# Altium integrated library TI Logic Buffer Line Driver.IntLib: 1037 symbols (part 22 of 25)
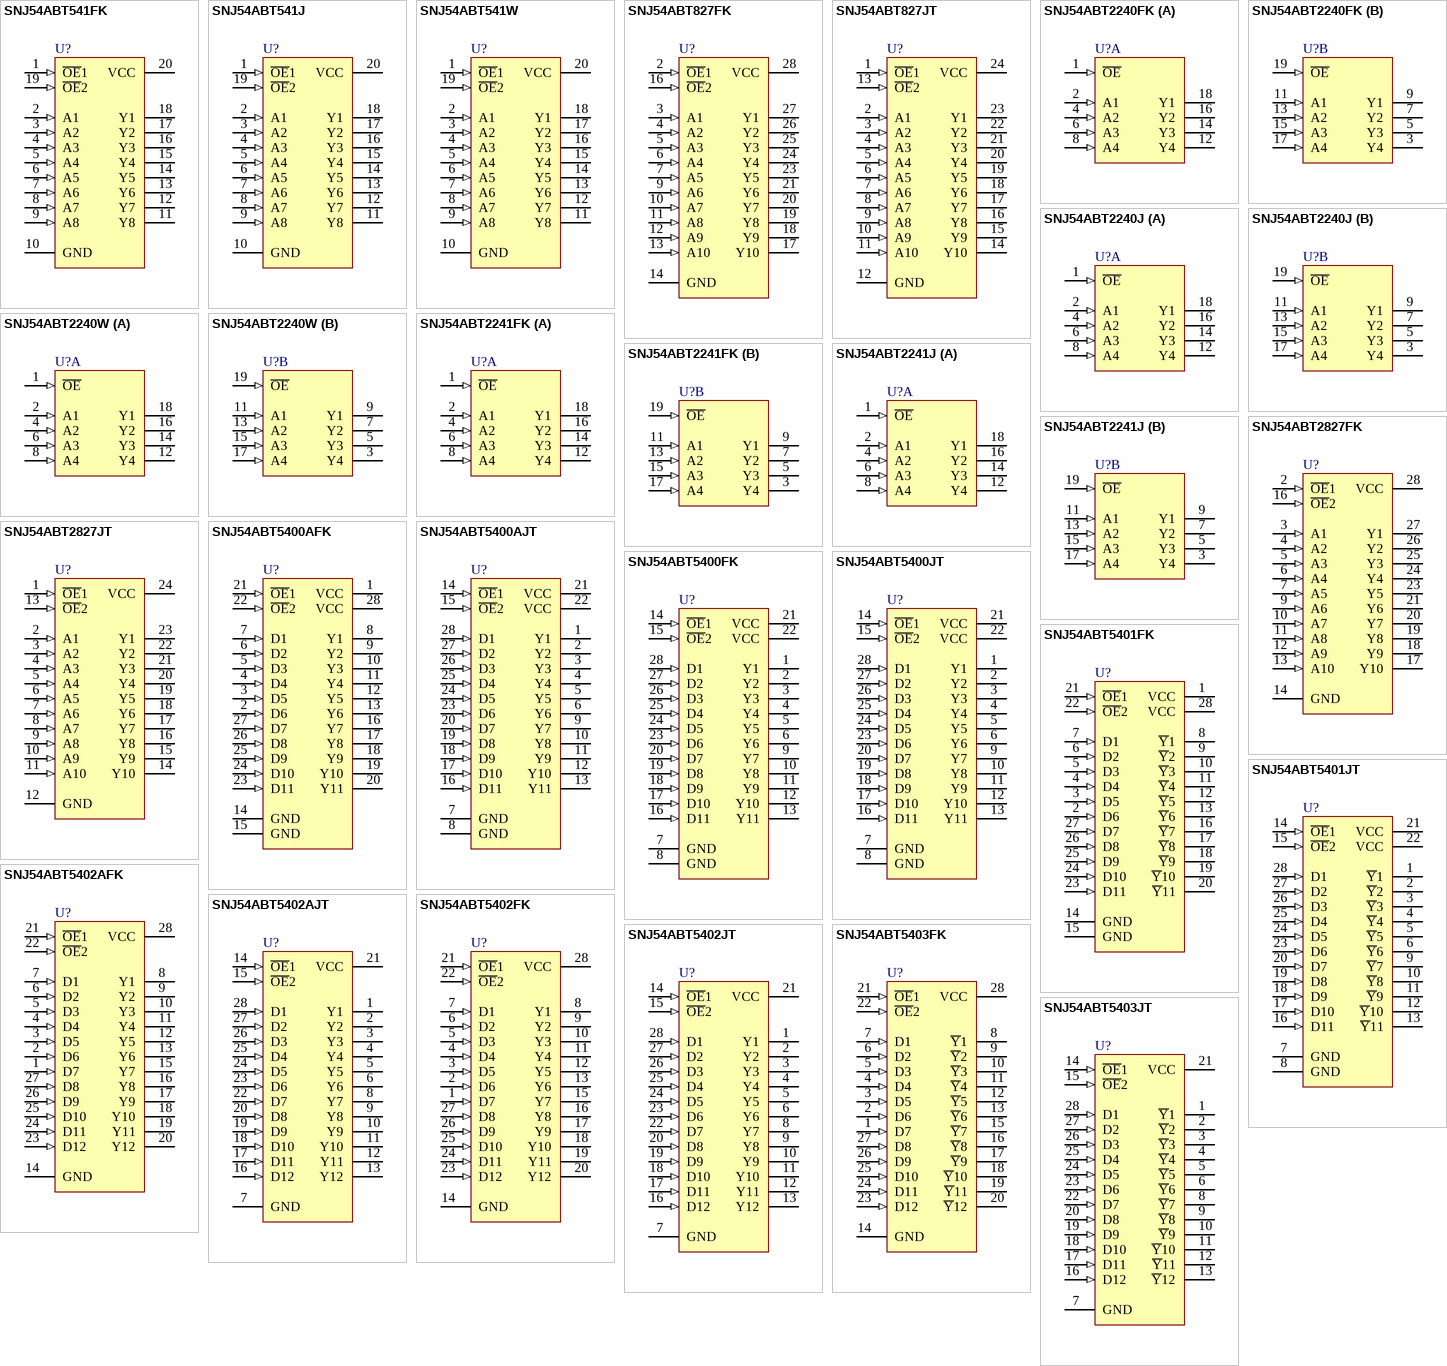
[diagram p66: symbols SNJ54ABT541FK to SNJ54ABT5403JT]

## SNJ54ABT541J
designator U?
Octal Buffer/Driver with 3-State Outputs; Published: 8-Jun-2000; LatestRevisionDate: 06-Jun-2005; LatestRevisionNote: Stylized 3D Model Added.; DatasheetVersion: Oct-1998; PackageVersion: Jun-1999; PackageReference: J020; Publisher: Altium Limited; PackageDescription: DIP; 20 Leads; Row Spacing 7.62 mm; Pitch 2.54 mm; ComponentLink1Description: Manufacturer Link; ComponentLink1URL: http://www.ti.com/; ComponentLink2Description: Datasheet; ComponentLink2URL: http://www-s.ti.com/sc/ds/sn74abt541b.pdf
footprint J020 (DIP; 20 Leads; Row Spacing 7.62 mm; Pitch 2.54 mm)
3D model J020 (DIP; 20 Leads; Row Spacing 7.62 mm; Pitch 2.54 mm)
signal-integrity model SNJ54ABT541J
pins: 1 ~{OE}1 (in), 2 A1 (in), 3 A2 (in), 4 A3 (in), 5 A4 (in), 6 A5 (in), 7 A6 (in), 8 A7 (in), 9 A8 (in), 10 GND (power), 11 Y8 (hiz), 12 Y7 (hiz), 13 Y6 (hiz), 14 Y5 (hiz), 15 Y4 (hiz), 16 Y3 (hiz), 17 Y2 (hiz), 18 Y1 (hiz), 19 ~{OE}2 (in), 20 VCC (power)

## SNJ54ABT541W
designator U?
Octal Buffer/Driver with 3-State Outputs; Published: 8-Jun-2000; LatestRevisionDate: 06-Jun-2005; LatestRevisionNote: Stylized 3D Model Added.; DatasheetVersion: Oct-1998; PackageVersion: Jan-1995; PackageReference: W020; Publisher: Altium Limited; PackageDescription: DFP; 20 Leads; Body 13.7 x 7.6 mm (LxW max); Pitch 1.27 mm; ComponentLink1Description: Manufacturer Link; ComponentLink1URL: http://www.ti.com/; ComponentLink2Description: Datasheet; ComponentLink2URL: http://www-s.ti.com/sc/ds/sn74abt541b.pdf
footprint W020 (DFP; 20 Leads; Body 13.7 x 7.6 mm (LxW max); Pitch 1.27 mm)
3D model W020 (DFP; 20 Leads; Body 13.7 x 7.6 mm (LxW max); Pitch 1.27 mm)
signal-integrity model SNJ54ABT541W
pins: 1 ~{OE}1 (in), 2 A1 (in), 3 A2 (in), 4 A3 (in), 5 A4 (in), 6 A5 (in), 7 A6 (in), 8 A7 (in), 9 A8 (in), 10 GND (power), 11 Y8 (hiz), 12 Y7 (hiz), 13 Y6 (hiz), 14 Y5 (hiz), 15 Y4 (hiz), 16 Y3 (hiz), 17 Y2 (hiz), 18 Y1 (hiz), 19 ~{OE}2 (in), 20 VCC (power)

## SNJ54ABT827FK
designator U?
10-Bit Buffer/Driver with 3-State Outputs; Note: Pins No 1,8,15 and 22 are not connected; Published: 8-Jun-2000; LatestRevisionDate: 17-Jul-2002; LatestRevisionNote: Re-released for DXP Platform.; DatasheetVersion: May-1997; PackageVersion: 1998; PackageReference: FK028; Publisher: Altium Limited; PackageDescription: Leadless Chip Carrier; 28 Terminals; Body 11.4 x 11.4 mm; ComponentLink1Description: Manufacturer Link; ComponentLink1URL: http://www.ti.com/; ComponentLink2Description: Datasheet; ComponentLink2URL: http://www-s.ti.com/sc/ds/sn74abt827.pdf
footprint FK028 (Leadless Chip Carrier; 28 Terminals; Body 11.4 x 11.4 mm)
signal-integrity model SNJ54ABT827FK
pins: 2 ~{OE}1 (in), 3 A1 (in), 4 A2 (in), 5 A3 (in), 6 A4 (in), 7 A5 (in), 9 A6 (in), 10 A7 (in), 11 A8 (in), 12 A9 (in), 13 A10 (in), 14 GND (power), 16 ~{OE}2 (in), 17 Y10 (hiz), 18 Y9 (hiz), 19 Y8 (hiz), 20 Y7 (hiz), 21 Y6 (hiz), 23 Y5 (hiz), 24 Y4 (hiz), 25 Y3 (hiz), 26 Y2 (hiz), 27 Y1 (hiz), 28 VCC (power)

## SNJ54ABT827JT
designator U?
10-Bit Buffer/Driver with 3-State Outputs; Published: 8-Jun-2000; LatestRevisionDate: 06-Jun-2005; LatestRevisionNote: Stylized 3D Model Added.; DatasheetVersion: May-1997; PackageVersion: Jan-1997; PackageReference: JT024; Publisher: Altium Limited; PackageDescription: DIP; 24 Leads; Row Spacing 7.62 mm; Pitch 2.54 mm; Code_JEDEC: MS-001-AF; ComponentLink1Description: Manufacturer Link; ComponentLink1URL: http://www.ti.com/; ComponentLink2Description: Datasheet; ComponentLink2URL: http://www-s.ti.com/sc/ds/sn74abt827.pdf
footprint JT024 (DIP; 24 Leads; Row Spacing 7.62 mm; Pitch 2.54 mm)
3D model JT024 (DIP; 24 Leads; Row Spacing 7.62 mm; Pitch 2.54 mm)
signal-integrity model SNJ54ABT827JT
pins: 1 ~{OE}1 (in), 2 A1 (in), 3 A2 (in), 4 A3 (in), 5 A4 (in), 6 A5 (in), 7 A6 (in), 8 A7 (in), 9 A8 (in), 10 A9 (in), 11 A10 (in), 12 GND (power), 13 ~{OE}2 (in), 14 Y10 (hiz), 15 Y9 (hiz), 16 Y8 (hiz), 17 Y7 (hiz), 18 Y6 (hiz), 19 Y5 (hiz), 20 Y4 (hiz), 21 Y3 (hiz), 22 Y2 (hiz), 23 Y1 (hiz), 24 VCC (power)

## SNJ54ABT2240FK
designator U?
Octal Buffer and Line/MOS Driver with 3-State Outputs; Published: 8-Jun-2000; LatestRevisionDate: 17-Jul-2002; LatestRevisionNote: Re-released for DXP Platform.; DatasheetVersion: May-1997; PackageVersion: 1998; PackageReference: FK020; Publisher: Altium Limited; PackageDescription: Leadless Chip Carrier; 20 Terminals; Body 8.9 x 8.9 mm; ComponentLink1Description: Manufacturer Link; ComponentLink1URL: http://www.ti.com/
footprint FK020 (Leadless Chip Carrier; 20 Terminals; Body 8.9 x 8.9 mm)
signal-integrity model SNJ54ABT2240FK
pins on every part: 10 GND (power) hidden to GND, 20 VCC (power) hidden to VCC
part A pins: 1 ~{OE} (in), 2 A1 (in), 4 A2 (in), 6 A3 (in), 8 A4 (in), 12 Y4 (hiz), 14 Y3 (hiz), 16 Y2 (hiz), 18 Y1 (hiz)
part B pins: 3 Y4 (hiz), 5 Y3 (hiz), 7 Y2 (hiz), 9 Y1 (hiz), 11 A1 (in), 13 A2 (in), 15 A3 (in), 17 A4 (in), 19 ~{OE} (in)

## SNJ54ABT2240J
designator U?
Octal Buffer and Line/MOS Driver with 3-State Outputs; Published: 8-Jun-2000; LatestRevisionDate: 06-Jun-2005; LatestRevisionNote: Stylized 3D Model Added.; DatasheetVersion: May-1997; PackageVersion: Jun-1999; PackageReference: J020C; Publisher: Altium Limited; PackageDescription: DIP; 20 Leads; Row Spacing 7.62 mm; Pitch 2.54 mm; ComponentLink1Description: Manufacturer Link; ComponentLink1URL: http://www.ti.com/
footprint J020C (DIP; 20 Leads; Row Spacing 7.62 mm; Pitch 2.54 mm)
3D model J020 (DIP; 20 Leads; Row Spacing 7.62 mm; Pitch 2.54 mm)
signal-integrity model SNJ54ABT2240J
pins on every part: 10 GND (power) hidden to GND, 20 VCC (power) hidden to VCC
part A pins: 1 ~{OE} (in), 2 A1 (in), 4 A2 (in), 6 A3 (in), 8 A4 (in), 12 Y4 (hiz), 14 Y3 (hiz), 16 Y2 (hiz), 18 Y1 (hiz)
part B pins: 3 Y4 (hiz), 5 Y3 (hiz), 7 Y2 (hiz), 9 Y1 (hiz), 11 A1 (in), 13 A2 (in), 15 A3 (in), 17 A4 (in), 19 ~{OE} (in)

## SNJ54ABT2240W
designator U?
Octal Buffer and Line/MOS Driver with 3-State Outputs; Published: 8-Jun-2000; LatestRevisionDate: 06-Jun-2005; LatestRevisionNote: Stylized 3D Model Added.; DatasheetVersion: May-1997; PackageVersion: Jan-1995; PackageReference: W020; Publisher: Altium Limited; PackageDescription: DFP; 20 Leads; Body 13.7 x 7.6 mm (LxW max); Pitch 1.27 mm; ComponentLink1Description: Manufacturer Link; ComponentLink1URL: http://www.ti.com/
footprint W020 (DFP; 20 Leads; Body 13.7 x 7.6 mm (LxW max); Pitch 1.27 mm)
3D model W020 (DFP; 20 Leads; Body 13.7 x 7.6 mm (LxW max); Pitch 1.27 mm)
signal-integrity model SNJ54ABT2240W
pins on every part: 10 GND (power) hidden to GND, 20 VCC (power) hidden to VCC
part A pins: 1 ~{OE} (in), 2 A1 (in), 4 A2 (in), 6 A3 (in), 8 A4 (in), 12 Y4 (hiz), 14 Y3 (hiz), 16 Y2 (hiz), 18 Y1 (hiz)
part B pins: 3 Y4 (hiz), 5 Y3 (hiz), 7 Y2 (hiz), 9 Y1 (hiz), 11 A1 (in), 13 A2 (in), 15 A3 (in), 17 A4 (in), 19 ~{OE} (in)

## SNJ54ABT2241FK
designator U?
Octal Buffer and Line/MOS Driver with 3-State Outputs; Published: 8-Jun-2000; LatestRevisionDate: 17-Jul-2002; LatestRevisionNote: Re-released for DXP Platform.; DatasheetVersion: Jan-1997; PackageVersion: 1998; PackageReference: FK020; Publisher: Altium Limited; PackageDescription: Leadless Chip Carrier; 20 Terminals; Body 8.9 x 8.9 mm; ComponentLink1Description: Manufacturer Link; ComponentLink1URL: http://www.ti.com/
footprint FK020 (Leadless Chip Carrier; 20 Terminals; Body 8.9 x 8.9 mm)
signal-integrity model SNJ54ABT2241FK
pins on every part: 10 GND (power) hidden to GND, 20 VCC (power) hidden to VCC
part A pins: 1 ~{OE} (in), 2 A1 (in), 4 A2 (in), 6 A3 (in), 8 A4 (in), 12 Y4 (hiz), 14 Y3 (hiz), 16 Y2 (hiz), 18 Y1 (hiz)
part B pins: 3 Y4 (hiz), 5 Y3 (hiz), 7 Y2 (hiz), 9 Y1 (hiz), 11 A1 (in), 13 A2 (in), 15 A3 (in), 17 A4 (in), 19 ~{OE} (in)

## SNJ54ABT2241J
designator U?
Octal Buffer and Line/MOS Driver with 3-State Outputs; Published: 8-Jun-2000; LatestRevisionDate: 06-Jun-2005; LatestRevisionNote: Stylized 3D Model Added.; DatasheetVersion: Jan-1997; PackageVersion: Jun-1999; PackageReference: J020C; Publisher: Altium Limited; PackageDescription: DIP; 20 Leads; Row Spacing 7.62 mm; Pitch 2.54 mm; ComponentLink1Description: Manufacturer Link; ComponentLink1URL: http://www.ti.com/
footprint J020C (DIP; 20 Leads; Row Spacing 7.62 mm; Pitch 2.54 mm)
3D model J020 (DIP; 20 Leads; Row Spacing 7.62 mm; Pitch 2.54 mm)
signal-integrity model SNJ54ABT2241J
pins on every part: 10 GND (power) hidden to GND, 20 VCC (power) hidden to VCC
part A pins: 1 ~{OE} (in), 2 A1 (in), 4 A2 (in), 6 A3 (in), 8 A4 (in), 12 Y4 (hiz), 14 Y3 (hiz), 16 Y2 (hiz), 18 Y1 (hiz)
part B pins: 3 Y4 (hiz), 5 Y3 (hiz), 7 Y2 (hiz), 9 Y1 (hiz), 11 A1 (in), 13 A2 (in), 15 A3 (in), 17 A4 (in), 19 ~{OE} (in)

## SNJ54ABT2827FK
designator U?
10-Bit Buffer/Driver with 3-State Outputs; Note: Pins No 1,8,15 and 22 are not connected; Published: 8-Jun-2000; LatestRevisionDate: 17-Jul-2002; LatestRevisionNote: Re-released for DXP Platform.; DatasheetVersion: Jan-1997; PackageVersion: 1998; PackageReference: FK028; Publisher: Altium Limited; PackageDescription: Leadless Chip Carrier; 28 Terminals; Body 11.4 x 11.4 mm; ComponentLink1Description: Manufacturer Link; ComponentLink1URL: http://www.ti.com/; ComponentLink2Description: Datasheet; ComponentLink2URL: http://www-s.ti.com/sc/ds/sn74abt2827.pdf
footprint FK028 (Leadless Chip Carrier; 28 Terminals; Body 11.4 x 11.4 mm)
signal-integrity model SNJ54ABT2827FK
pins: 2 ~{OE}1 (in), 3 A1 (in), 4 A2 (in), 5 A3 (in), 6 A4 (in), 7 A5 (in), 9 A6 (in), 10 A7 (in), 11 A8 (in), 12 A9 (in), 13 A10 (in), 14 GND (power), 16 ~{OE}2 (in), 17 Y10 (hiz), 18 Y9 (hiz), 19 Y8 (hiz), 20 Y7 (hiz), 21 Y6 (hiz), 23 Y5 (hiz), 24 Y4 (hiz), 25 Y3 (hiz), 26 Y2 (hiz), 27 Y1 (hiz), 28 VCC (power)

## SNJ54ABT2827JT
designator U?
10-Bit Buffer/Driver with 3-State Outputs; Published: 8-Jun-2000; LatestRevisionDate: 06-Jun-2005; LatestRevisionNote: Stylized 3D Model Added.; DatasheetVersion: Jan-1997; PackageVersion: Jan-1997; PackageReference: JT024; Publisher: Altium Limited; PackageDescription: DIP; 24 Leads; Row Spacing 7.62 mm; Pitch 2.54 mm; Code_JEDEC: MS-001-AF; ComponentLink1Description: Manufacturer Link; ComponentLink1URL: http://www.ti.com/; ComponentLink2Description: Datasheet; ComponentLink2URL: http://www-s.ti.com/sc/ds/sn74abt2827.pdf
footprint JT024 (DIP; 24 Leads; Row Spacing 7.62 mm; Pitch 2.54 mm)
3D model JT024 (DIP; 24 Leads; Row Spacing 7.62 mm; Pitch 2.54 mm)
signal-integrity model SNJ54ABT2827JT
pins: 1 ~{OE}1 (in), 2 A1 (in), 3 A2 (in), 4 A3 (in), 5 A4 (in), 6 A5 (in), 7 A6 (in), 8 A7 (in), 9 A8 (in), 10 A9 (in), 11 A10 (in), 12 GND (power), 13 ~{OE}2 (in), 14 Y10 (hiz), 15 Y9 (hiz), 16 Y8 (hiz), 17 Y7 (hiz), 18 Y6 (hiz), 19 Y5 (hiz), 20 Y4 (hiz), 21 Y3 (hiz), 22 Y2 (hiz), 23 Y1 (hiz), 24 VCC (power)

## SNJ54ABT5400AFK
designator U?
11-Bit Line/Memory Driver with 3-State Outputs; Published: 8-Jun-2000; LatestRevisionDate: 17-Jul-2002; LatestRevisionNote: Re-released for DXP Platform.; DatasheetVersion: May-1997; PackageVersion: 1998; PackageReference: FK028; Publisher: Altium Limited; PackageDescription: Leadless Chip Carrier; 28 Terminals; Body 11.4 x 11.4 mm; ComponentLink1Description: Manufacturer Link; ComponentLink1URL: http://www.ti.com/; ComponentLink2Description: Datasheet; ComponentLink2URL: http://www-s.ti.com/sc/ds/sn74abt5400a.pdf
footprint FK028 (Leadless Chip Carrier; 28 Terminals; Body 11.4 x 11.4 mm)
signal-integrity model SNJ54ABT5400AFK
pins: 1 VCC (power), 2 D6 (in), 3 D5 (in), 4 D4 (in), 5 D3 (in), 6 D2 (in), 7 D1 (in), 8 Y1 (hiz), 9 Y2 (hiz), 10 Y3 (hiz), 11 Y4 (hiz), 12 Y5 (hiz), 13 Y6 (hiz), 14 GND (power), 15 GND (power), 16 Y7 (hiz), 17 Y8 (hiz), 18 Y9 (hiz), 19 Y10 (hiz), 20 Y11 (hiz), 21 ~{OE}1 (in), 22 ~{OE}2 (in), 23 D11 (in), 24 D10 (in), 25 D9 (in), 26 D8 (in), 27 D7 (in), 28 VCC (power)

## SNJ54ABT5400AJT
designator U?
11-Bit Line/Memory Driver with 3-State Outputs; Published: 8-Jun-2000; LatestRevisionDate: 06-Jun-2005; LatestRevisionNote: Stylized 3D Model Added.; DatasheetVersion: May-1997; PackageVersion: Jan-1997; PackageReference: JT028; Publisher: Altium Limited; PackageDescription: DIP; 28 Leads; Row Spacing 7.62 mm; Pitch 2.54 mm; ComponentLink1Description: Manufacturer Link; ComponentLink1URL: http://www.ti.com/; ComponentLink2Description: Datasheet; ComponentLink2URL: http://www-s.ti.com/sc/ds/sn74abt5400a.pdf
footprint JT028 (DIP; 28 Leads; Row Spacing 7.62 mm; Pitch 2.54 mm)
3D model JT028 (DIP; 28 Leads; Row Spacing 7.62 mm; Pitch 2.54 mm)
signal-integrity model SNJ54ABT5400AJT
pins: 1 Y1 (hiz), 2 Y2 (hiz), 3 Y3 (hiz), 4 Y4 (hiz), 5 Y5 (hiz), 6 Y6 (hiz), 7 GND (power), 8 GND (power), 9 Y7 (hiz), 10 Y8 (hiz), 11 Y9 (hiz), 12 Y10 (hiz), 13 Y11 (hiz), 14 ~{OE}1 (in), 15 ~{OE}2 (in), 16 D11 (in), 17 D10 (in), 18 D9 (in), 19 D8 (in), 20 D7 (in), 21 VCC (power), 22 VCC (power), 23 D6 (in), 24 D5 (in), 25 D4 (in), 26 D3 (in), 27 D2 (in), 28 D1 (in)

## SNJ54ABT5400FK
designator U?
11-Bit Line/Memory Driver with 3-State Outputs; Published: 8-Jun-2000; LatestRevisionDate: 17-Jul-2002; LatestRevisionNote: Re-released for DXP Platform.; DatasheetVersion: Jul-1994; PackageVersion: 1998; PackageReference: FK028; Publisher: Altium Limited; PackageDescription: Leadless Chip Carrier; 28 Terminals; Body 11.4 x 11.4 mm; ComponentLink1Description: Manufacturer Link; ComponentLink1URL: http://www.ti.com/; ComponentLink2Description: Datasheet; ComponentLink2URL: http://www-s.ti.com/sc/ds/sn74abt5400.pdf
footprint FK028 (Leadless Chip Carrier; 28 Terminals; Body 11.4 x 11.4 mm)
signal-integrity model SNJ54ABT5400FK
pins: 1 Y1 (hiz), 2 Y2 (hiz), 3 Y3 (hiz), 4 Y4 (hiz), 5 Y5 (hiz), 6 Y6 (hiz), 7 GND (power), 8 GND (power), 9 Y7 (hiz), 10 Y8 (hiz), 11 Y9 (hiz), 12 Y10 (hiz), 13 Y11 (hiz), 14 ~{OE}1 (in), 15 ~{OE}2 (in), 16 D11 (in), 17 D10 (in), 18 D9 (in), 19 D8 (in), 20 D7 (in), 21 VCC (power), 22 VCC (power), 23 D6 (in), 24 D5 (in), 25 D4 (in), 26 D3 (in), 27 D2 (in), 28 D1 (in)

## SNJ54ABT5400JT
designator U?
11-Bit Line/Memory Driver with 3-State Outputs; Published: 8-Jun-2000; LatestRevisionDate: 06-Jun-2005; LatestRevisionNote: Stylized 3D Model Added.; DatasheetVersion: Jul-1994; PackageVersion: Jan-1997; PackageReference: JT028; Publisher: Altium Limited; PackageDescription: DIP; 28 Leads; Row Spacing 7.62 mm; Pitch 2.54 mm; ComponentLink1Description: Manufacturer Link; ComponentLink1URL: http://www.ti.com/; ComponentLink2Description: Datasheet; ComponentLink2URL: http://www-s.ti.com/sc/ds/sn74abt5400.pdf
footprint JT028 (DIP; 28 Leads; Row Spacing 7.62 mm; Pitch 2.54 mm)
3D model JT028 (DIP; 28 Leads; Row Spacing 7.62 mm; Pitch 2.54 mm)
signal-integrity model SNJ54ABT5400JT
pins: 1 Y1 (hiz), 2 Y2 (hiz), 3 Y3 (hiz), 4 Y4 (hiz), 5 Y5 (hiz), 6 Y6 (hiz), 7 GND (power), 8 GND (power), 9 Y7 (hiz), 10 Y8 (hiz), 11 Y9 (hiz), 12 Y10 (hiz), 13 Y11 (hiz), 14 ~{OE}1 (in), 15 ~{OE}2 (in), 16 D11 (in), 17 D10 (in), 18 D9 (in), 19 D8 (in), 20 D7 (in), 21 VCC (power), 22 VCC (power), 23 D6 (in), 24 D5 (in), 25 D4 (in), 26 D3 (in), 27 D2 (in), 28 D1 (in)

## SNJ54ABT5401FK
designator U?
11-Bit Line/Memory Driver with 3-State Output; Published: 8-Jun-2000; LatestRevisionDate: 17-Jul-2002; LatestRevisionNote: Re-released for DXP Platform.; DatasheetVersion: Jan-1997; PackageVersion: 1998; PackageReference: FK028; Publisher: Altium Limited; PackageDescription: Leadless Chip Carrier; 28 Terminals; Body 11.4 x 11.4 mm; ComponentLink1Description: Manufacturer Link; ComponentLink1URL: http://www.ti.com/; ComponentLink2Description: Datasheet; ComponentLink2URL: http://www-s.ti.com/sc/ds/sn74abt5401.pdf
footprint FK028 (Leadless Chip Carrier; 28 Terminals; Body 11.4 x 11.4 mm)
signal-integrity model SNJ54ABT5401FK
pins: 1 VCC (power), 2 D6 (in), 3 D5 (in), 4 D4 (in), 5 D3 (in), 6 D2 (in), 7 D1 (in), 8 ~{Y}1 (hiz), 9 ~{Y}2 (hiz), 10 ~{Y}3 (hiz), 11 ~{Y}4 (hiz), 12 ~{Y}5 (hiz), 13 ~{Y}6 (hiz), 14 GND (power), 15 GND (power), 16 ~{Y}7 (hiz), 17 ~{Y}8 (hiz), 18 ~{Y}9 (hiz), 19 ~{Y}10 (hiz), 20 ~{Y}11 (hiz), 21 ~{OE}1 (in), 22 ~{OE}2 (in), 23 D11 (in), 24 D10 (in), 25 D9 (in), 26 D8 (in), 27 D7 (in), 28 VCC (power)

## SNJ54ABT5401JT
designator U?
11-Bit Line/Memory Driver with 3-State Output; Published: 8-Jun-2000; LatestRevisionDate: 06-Jun-2005; LatestRevisionNote: Stylized 3D Model Added.; DatasheetVersion: Jan-1997; PackageVersion: Jan-1997; PackageReference: JT028; Publisher: Altium Limited; PackageDescription: DIP; 28 Leads; Row Spacing 7.62 mm; Pitch 2.54 mm; ComponentLink1Description: Manufacturer Link; ComponentLink1URL: http://www.ti.com/; ComponentLink2Description: Datasheet; ComponentLink2URL: http://www-s.ti.com/sc/ds/sn74abt5401.pdf
footprint JT028 (DIP; 28 Leads; Row Spacing 7.62 mm; Pitch 2.54 mm)
3D model JT028 (DIP; 28 Leads; Row Spacing 7.62 mm; Pitch 2.54 mm)
signal-integrity model SNJ54ABT5401JT
pins: 1 ~{Y}1 (hiz), 2 ~{Y}2 (hiz), 3 ~{Y}3 (hiz), 4 ~{Y}4 (hiz), 5 ~{Y}5 (hiz), 6 ~{Y}6 (hiz), 7 GND (power), 8 GND (power), 9 ~{Y}7 (hiz), 10 ~{Y}8 (hiz), 11 ~{Y}9 (hiz), 12 ~{Y}10 (hiz), 13 ~{Y}11 (hiz), 14 ~{OE}1 (in), 15 ~{OE}2 (in), 16 D11 (in), 17 D10 (in), 18 D9 (in), 19 D8 (in), 20 D7 (in), 21 VCC (power), 22 VCC (power), 23 D6 (in), 24 D5 (in), 25 D4 (in), 26 D3 (in), 27 D2 (in), 28 D1 (in)

## SNJ54ABT5402AFK
designator U?
12-Bit Line/Memory Driver with 3-State Output; Published: 8-Jun-2000; LatestRevisionDate: 17-Jul-2002; LatestRevisionNote: Re-released for DXP Platform.; DatasheetVersion: May-1997; PackageVersion: 1998; PackageReference: FK028; Publisher: Altium Limited; PackageDescription: Leadless Chip Carrier; 28 Terminals; Body 11.4 x 11.4 mm; ComponentLink1Description: Manufacturer Link; ComponentLink1URL: http://www.ti.com/; ComponentLink2Description: Datasheet; ComponentLink2URL: http://www-s.ti.com/sc/ds/sn74abt5402a.pdf
footprint FK028 (Leadless Chip Carrier; 28 Terminals; Body 11.4 x 11.4 mm)
signal-integrity model SNJ54ABT5402AFK
pins: 1 D7 (in), 2 D6 (in), 3 D5 (in), 4 D4 (in), 5 D3 (in), 6 D2 (in), 7 D1 (in), 8 Y1 (hiz), 9 Y2 (hiz), 10 Y3 (hiz), 11 Y4 (hiz), 12 Y5 (hiz), 13 Y6 (hiz), 14 GND (power), 15 Y7 (hiz), 16 Y8 (hiz), 17 Y9 (hiz), 18 Y10 (hiz), 19 Y11 (hiz), 20 Y12 (hiz), 21 ~{OE}1 (in), 22 ~{OE}2 (in), 23 D12 (in), 24 D11 (in), 25 D10 (in), 26 D9 (in), 27 D8 (in), 28 VCC (power)

## SNJ54ABT5402AJT
designator U?
12-Bit Line/Memory Driver with 3-State Output; Published: 8-Jun-2000; LatestRevisionDate: 06-Jun-2005; LatestRevisionNote: Stylized 3D Model Added.; DatasheetVersion: May-1997; PackageVersion: Jan-1997; PackageReference: JT028; Publisher: Altium Limited; PackageDescription: DIP; 28 Leads; Row Spacing 7.62 mm; Pitch 2.54 mm; ComponentLink1Description: Manufacturer Link; ComponentLink1URL: http://www.ti.com/; ComponentLink2Description: Datasheet; ComponentLink2URL: http://www-s.ti.com/sc/ds/sn74abt5402a.pdf
footprint JT028 (DIP; 28 Leads; Row Spacing 7.62 mm; Pitch 2.54 mm)
3D model JT028 (DIP; 28 Leads; Row Spacing 7.62 mm; Pitch 2.54 mm)
signal-integrity model SNJ54ABT5402AJT
pins: 1 Y1 (hiz), 2 Y2 (hiz), 3 Y3 (hiz), 4 Y4 (hiz), 5 Y5 (hiz), 6 Y6 (hiz), 7 GND (power), 8 Y7 (hiz), 9 Y8 (hiz), 10 Y9 (hiz), 11 Y10 (hiz), 12 Y11 (hiz), 13 Y12 (hiz), 14 ~{OE}1 (in), 15 ~{OE}2 (in), 16 D12 (in), 17 D11 (in), 18 D10 (in), 19 D9 (in), 20 D8 (in), 21 VCC (power), 22 D7 (in), 23 D6 (in), 24 D5 (in), 25 D4 (in), 26 D3 (in), 27 D2 (in), 28 D1 (in)

## SNJ54ABT5402FK
designator U?
12-Bit Line/Memory Driver with 3-State Output; Published: 8-Jun-2000; LatestRevisionDate: 17-Jul-2002; LatestRevisionNote: Re-released for DXP Platform.; DatasheetVersion: Jul-1994; PackageVersion: 1998; PackageReference: FK028; Publisher: Altium Limited; PackageDescription: Leadless Chip Carrier; 28 Terminals; Body 11.4 x 11.4 mm; ComponentLink1Description: Manufacturer Link; ComponentLink1URL: http://www.ti.com/; ComponentLink2Description: Datasheet; ComponentLink2URL: http://www-s.ti.com/sc/ds/sn74abt5402.pdf
footprint FK028 (Leadless Chip Carrier; 28 Terminals; Body 11.4 x 11.4 mm)
signal-integrity model SNJ54ABT5402FK
pins: 1 D7 (in), 2 D6 (in), 3 D5 (in), 4 D4 (in), 5 D3 (in), 6 D2 (in), 7 D1 (in), 8 Y1 (hiz), 9 Y2 (hiz), 10 Y3 (hiz), 11 Y4 (hiz), 12 Y5 (hiz), 13 Y6 (hiz), 14 GND (power), 15 Y7 (hiz), 16 Y8 (hiz), 17 Y9 (hiz), 18 Y10 (hiz), 19 Y11 (hiz), 20 Y12 (hiz), 21 ~{OE}1 (in), 22 ~{OE}2 (in), 23 D12 (in), 24 D11 (in), 25 D10 (in), 26 D9 (in), 27 D8 (in), 28 VCC (power)

## SNJ54ABT5402JT
designator U?
12-Bit Line/Memory Driver with 3-State Output; Published: 8-Jun-2000; LatestRevisionDate: 06-Jun-2005; LatestRevisionNote: Stylized 3D Model Added.; DatasheetVersion: Jul-1994; PackageVersion: Jan-1997; PackageReference: JT028; Publisher: Altium Limited; PackageDescription: DIP; 28 Leads; Row Spacing 7.62 mm; Pitch 2.54 mm; ComponentLink1Description: Manufacturer Link; ComponentLink1URL: http://www.ti.com/; ComponentLink2Description: Datasheet; ComponentLink2URL: http://www-s.ti.com/sc/ds/sn74abt5402.pdf
footprint JT028 (DIP; 28 Leads; Row Spacing 7.62 mm; Pitch 2.54 mm)
3D model JT028 (DIP; 28 Leads; Row Spacing 7.62 mm; Pitch 2.54 mm)
signal-integrity model SNJ54ABT5402JT
pins: 1 Y1 (hiz), 2 Y2 (hiz), 3 Y3 (hiz), 4 Y4 (hiz), 5 Y5 (hiz), 6 Y6 (hiz), 7 GND (power), 8 Y7 (hiz), 9 Y8 (hiz), 10 Y9 (hiz), 11 Y10 (hiz), 12 Y11 (hiz), 13 Y12 (hiz), 14 ~{OE}1 (in), 15 ~{OE}2 (in), 16 D12 (in), 17 D11 (in), 18 D10 (in), 19 D9 (in), 20 D8 (in), 21 VCC (power), 22 D7 (in), 23 D6 (in), 24 D5 (in), 25 D4 (in), 26 D3 (in), 27 D2 (in), 28 D1 (in)

## SNJ54ABT5403FK
designator U?
12-Bit Line/Memory Driver with 3-State Output; Published: 8-Jun-2000; LatestRevisionDate: 17-Jul-2002; LatestRevisionNote: Re-released for DXP Platform.; DatasheetVersion: Jan-1997; PackageVersion: 1998; PackageReference: FK028; Publisher: Altium Limited; PackageDescription: Leadless Chip Carrier; 28 Terminals; Body 11.4 x 11.4 mm; ComponentLink1Description: Manufacturer Link; ComponentLink1URL: http://www.ti.com/; ComponentLink2Description: Datasheet; ComponentLink2URL: http://www-s.ti.com/sc/ds/sn74abt5403.pdf
footprint FK028 (Leadless Chip Carrier; 28 Terminals; Body 11.4 x 11.4 mm)
signal-integrity model SNJ54ABT5403FK
pins: 1 D7 (in), 2 D6 (in), 3 D5 (in), 4 D4 (in), 5 D3 (in), 6 D2 (in), 7 D1 (in), 8 ~{Y}1 (hiz), 9 ~{Y}2 (hiz), 10 ~{Y}3 (hiz), 11 ~{Y}4 (hiz), 12 ~{Y}5 (hiz), 13 ~{Y}6 (hiz), 14 GND (power), 15 ~{Y}7 (hiz), 16 ~{Y}8 (hiz), 17 ~{Y}9 (hiz), 18 ~{Y}10 (hiz), 19 ~{Y}11 (hiz), 20 ~{Y}12 (hiz), 21 ~{OE}1 (in), 22 ~{OE}2 (in), 23 D12 (in), 24 D11 (in), 25 D10 (in), 26 D9 (in), 27 D8 (in), 28 VCC (power)

## SNJ54ABT5403JT
designator U?
12-Bit Line/Memory Driver with 3-State Output; Published: 8-Jun-2000; LatestRevisionDate: 06-Jun-2005; LatestRevisionNote: Stylized 3D Model Added.; DatasheetVersion: Jan-1997; PackageVersion: Jan-1997; PackageReference: JT028; Publisher: Altium Limited; PackageDescription: DIP; 28 Leads; Row Spacing 7.62 mm; Pitch 2.54 mm; ComponentLink1Description: Manufacturer Link; ComponentLink1URL: http://www.ti.com/; ComponentLink2Description: Datasheet; ComponentLink2URL: http://www-s.ti.com/sc/ds/sn74abt5403.pdf
footprint JT028 (DIP; 28 Leads; Row Spacing 7.62 mm; Pitch 2.54 mm)
3D model JT028 (DIP; 28 Leads; Row Spacing 7.62 mm; Pitch 2.54 mm)
signal-integrity model SNJ54ABT5403JT
pins: 1 ~{Y}1 (hiz), 2 ~{Y}2 (hiz), 3 ~{Y}3 (hiz), 4 ~{Y}4 (hiz), 5 ~{Y}5 (hiz), 6 ~{Y}6 (hiz), 7 GND (power), 8 ~{Y}7 (hiz), 9 ~{Y}8 (hiz), 10 ~{Y}9 (hiz), 11 ~{Y}10 (hiz), 12 ~{Y}11 (hiz), 13 ~{Y}12 (hiz), 14 ~{OE}1 (in), 15 ~{OE}2 (in), 16 D12 (in), 17 D11 (in), 18 D10 (in), 19 D9 (in), 20 D8 (in), 21 VCC (power), 22 D7 (in), 23 D6 (in), 24 D5 (in), 25 D4 (in), 26 D3 (in), 27 D2 (in), 28 D1 (in)

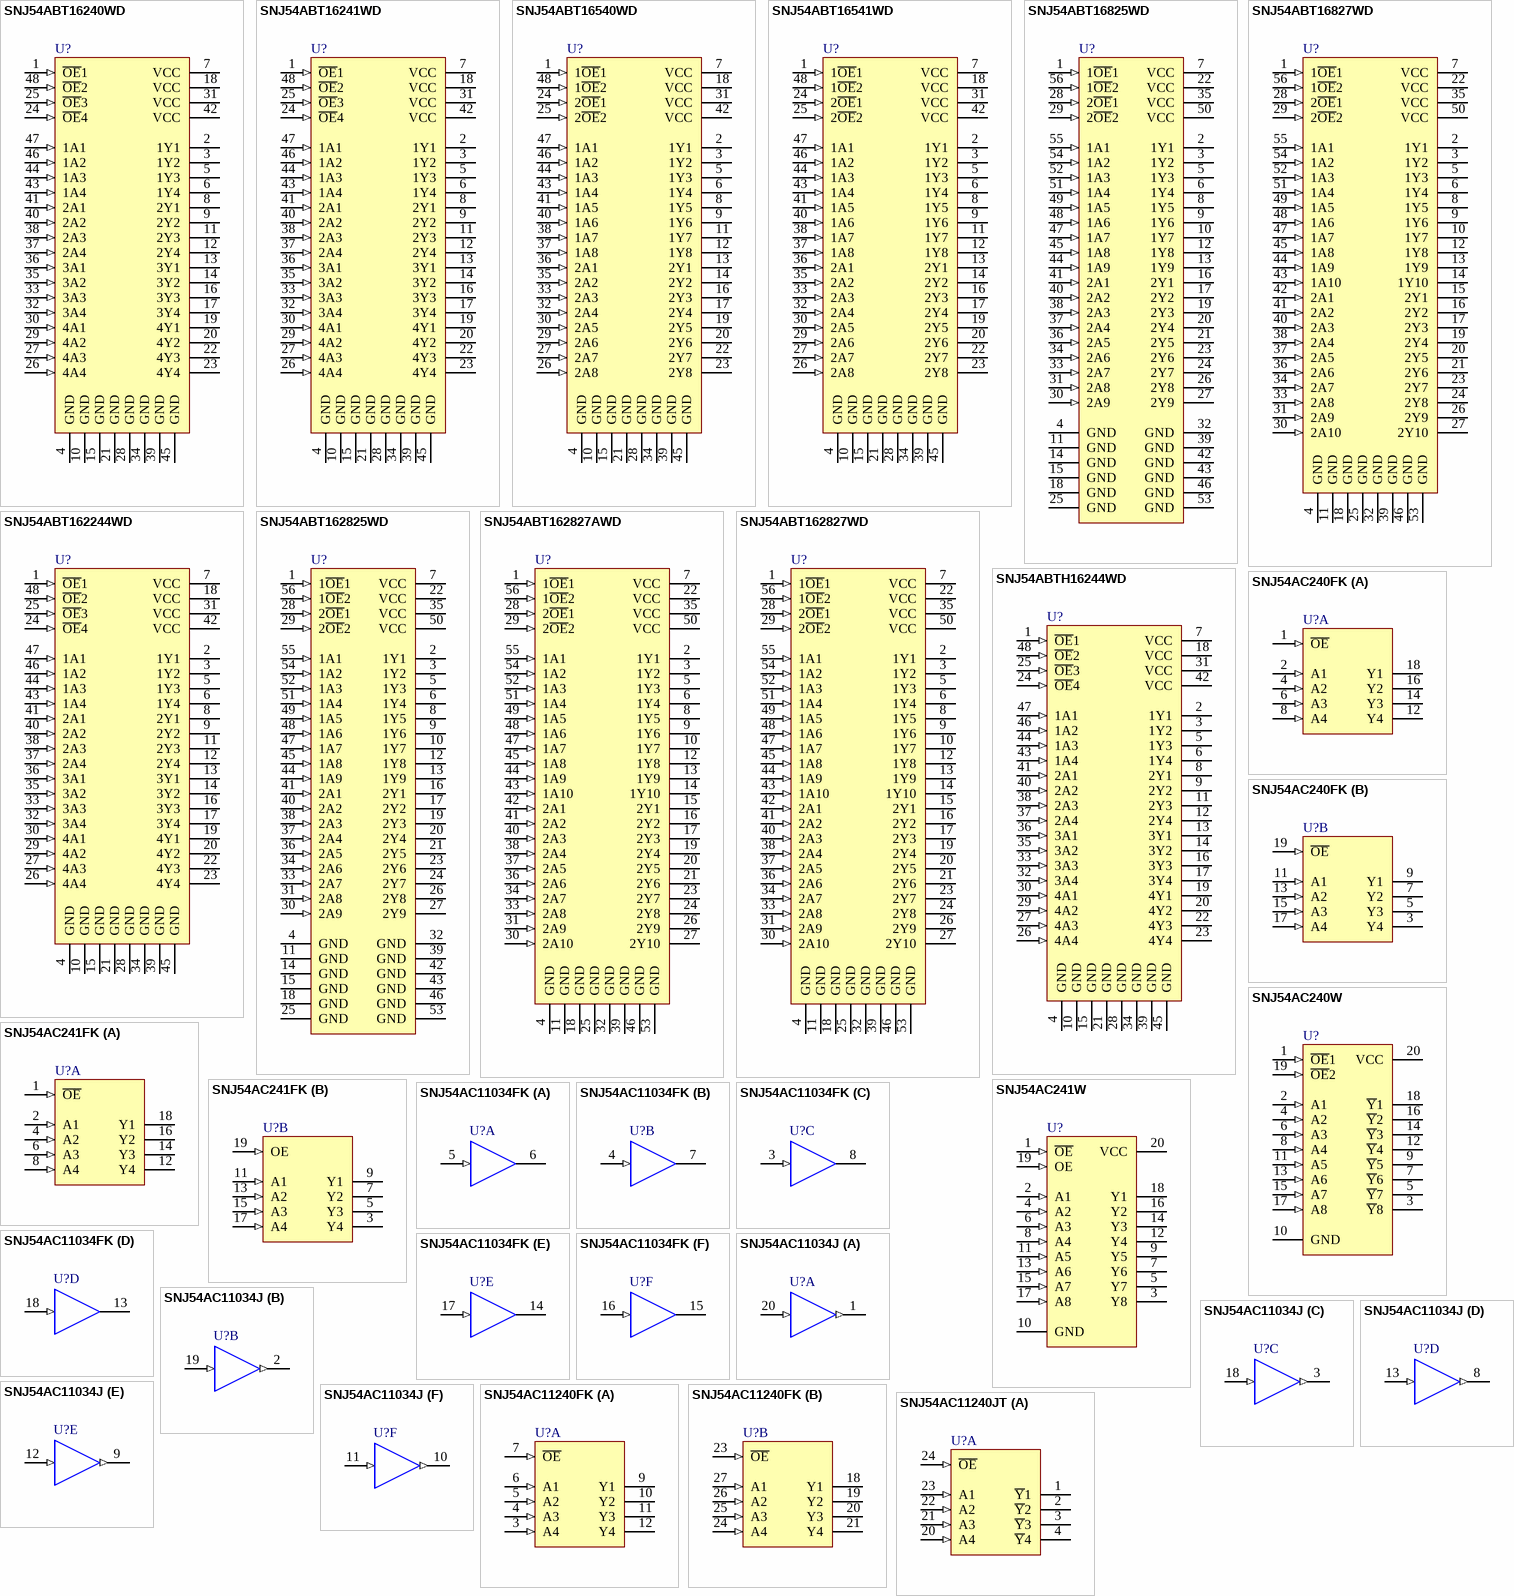
[diagram p39: symbols SNJ54ABT16240WD to SNJ54AC11240JT]

## SNJ54ABT16240WD
designator U?
16-Bit Buffer/Driver with 3-State Outputs; Published: 8-Jun-2000; LatestRevisionDate: 06-Jun-2005; LatestRevisionNote: Stylized 3D Model Added.; DatasheetVersion: Jan-1997; PackageVersion: Jan-1998; PackageReference: WD048; Publisher: Altium Limited; PackageDescription: DFP; 48 Leads; Body 16.3 x 9.9 mm (LxW max); Pitch 0.635 mm; Code_JEDEC: MO-146-AA; ComponentLink1Description: Manufacturer Link; ComponentLink1URL: http://www.ti.com/
footprint WD048 (DFP; 48 Leads; Body 16.3 x 9.9 mm (LxW max); Pitch 0.635 mm)
3D model WD048 (DFP; 48 Leads; Body 16.3 x 9.9 mm (LxW max); Pitch 0.635 mm)
signal-integrity model SNJ54ABT16240WD
pins: 1 ~{OE}1 (in), 2 1Y1 (hiz), 3 1Y2 (hiz), 4 GND (power), 5 1Y3 (hiz), 6 1Y4 (hiz), 7 VCC (power), 8 2Y1 (hiz), 9 2Y2 (hiz), 10 GND (power), 11 2Y3 (hiz), 12 2Y4 (hiz), 13 3Y1 (hiz), 14 3Y2 (hiz), 15 GND (power), 16 3Y3 (hiz), 17 3Y4 (hiz), 18 VCC (power), 19 4Y1 (hiz), 20 4Y2 (hiz), 21 GND (power), 22 4Y3 (hiz), 23 4Y4 (hiz), 24 ~{OE}4 (in), 25 ~{OE}3 (in), 26 4A4 (in), 27 4A3 (in), 28 GND (power), 29 4A2 (in), 30 4A1 (in), 31 VCC (power), 32 3A4 (in), 33 3A3 (in), 34 GND (power), 35 3A2 (in), 36 3A1 (in), 37 2A4 (in), 38 2A3 (in), 39 GND (power), 40 2A2 (in), 41 2A1 (in), 42 VCC (power), 43 1A4 (in), 44 1A3 (in), 45 GND (power), 46 1A2 (in), 47 1A1 (in), 48 ~{OE}2 (in)

## SNJ54ABT16241WD
designator U?
16-Bit Buffer/Driver with 3-State Outputs; Published: 8-Jun-2000; LatestRevisionDate: 06-Jun-2005; LatestRevisionNote: Stylized 3D Model Added.; DatasheetVersion: Jul-1994; PackageVersion: Jan-1998; PackageReference: WD048; Publisher: Altium Limited; PackageDescription: DFP; 48 Leads; Body 16.3 x 9.9 mm (LxW max); Pitch 0.635 mm; Code_JEDEC: MO-146-AA; ComponentLink1Description: Manufacturer Link; ComponentLink1URL: http://www.ti.com/
footprint WD048 (DFP; 48 Leads; Body 16.3 x 9.9 mm (LxW max); Pitch 0.635 mm)
3D model WD048 (DFP; 48 Leads; Body 16.3 x 9.9 mm (LxW max); Pitch 0.635 mm)
signal-integrity model SNJ54ABT16241WD
pins: 1 ~{OE}1 (in), 2 1Y1 (hiz), 3 1Y2 (hiz), 4 GND (power), 5 1Y3 (hiz), 6 1Y4 (hiz), 7 VCC (power), 8 2Y1 (hiz), 9 2Y2 (hiz), 10 GND (power), 11 2Y3 (hiz), 12 2Y4 (hiz), 13 3Y1 (hiz), 14 3Y2 (hiz), 15 GND (power), 16 3Y3 (hiz), 17 3Y4 (hiz), 18 VCC (power), 19 4Y1 (hiz), 20 4Y2 (hiz), 21 GND (power), 22 4Y3 (hiz), 23 4Y4 (hiz), 24 ~{OE}4 (in), 25 ~{OE}3 (in), 26 4A4 (in), 27 4A3 (in), 28 GND (power), 29 4A2 (in), 30 4A1 (in), 31 VCC (power), 32 3A4 (in), 33 3A3 (in), 34 GND (power), 35 3A2 (in), 36 3A1 (in), 37 2A4 (in), 38 2A3 (in), 39 GND (power), 40 2A2 (in), 41 2A1 (in), 42 VCC (power), 43 1A4 (in), 44 1A3 (in), 45 GND (power), 46 1A2 (in), 47 1A1 (in), 48 ~{OE}2 (in)

## SNJ54ABT16540WD
designator U?
16-Bit Buffer/Driver with 3-State Outputs; Published: 8-Jun-2000; LatestRevisionDate: 06-Jun-2005; LatestRevisionNote: Stylized 3D Model Added.; DatasheetVersion: Jul-1994; PackageVersion: Jan-1998; PackageReference: WD048; Publisher: Altium Limited; PackageDescription: DFP; 48 Leads; Body 16.3 x 9.9 mm (LxW max); Pitch 0.635 mm; Code_JEDEC: MO-146-AA; ComponentLink1Description: Manufacturer Link; ComponentLink1URL: http://www.ti.com/
footprint WD048 (DFP; 48 Leads; Body 16.3 x 9.9 mm (LxW max); Pitch 0.635 mm)
3D model WD048 (DFP; 48 Leads; Body 16.3 x 9.9 mm (LxW max); Pitch 0.635 mm)
signal-integrity model SNJ54ABT16540WD
pins: 1 1~{OE}1 (in), 2 1Y1 (hiz), 3 1Y2 (hiz), 4 GND (power), 5 1Y3 (hiz), 6 1Y4 (hiz), 7 VCC (power), 8 1Y5 (hiz), 9 1Y6 (hiz), 10 GND (power), 11 1Y7 (hiz), 12 1Y8 (hiz), 13 2Y1 (hiz), 14 2Y2 (hiz), 15 GND (power), 16 2Y3 (hiz), 17 2Y4 (hiz), 18 VCC (power), 19 2Y5 (hiz), 20 2Y6 (hiz), 21 GND (power), 22 2Y7 (hiz), 23 2Y8 (hiz), 24 2~{OE}1 (in), 25 2~{OE}2 (in), 26 2A8 (in), 27 2A7 (in), 28 GND (power), 29 2A6 (in), 30 2A5 (in), 31 VCC (power), 32 2A4 (in), 33 2A3 (in), 34 GND (power), 35 2A2 (in), 36 2A1 (in), 37 1A8 (in), 38 1A7 (in), 39 GND (power), 40 1A6 (in), 41 1A5 (in), 42 VCC (power), 43 1A4 (in), 44 1A3 (in), 45 GND (power), 46 1A2 (in), 47 1A1 (in), 48 1~{OE}2 (in)

## SNJ54ABT16541WD
designator U?
16-Bit Buffer/Driver with 3-State Outputs; Published: 8-Jun-2000; LatestRevisionDate: 06-Jun-2005; LatestRevisionNote: Stylized 3D Model Added.; DatasheetVersion: Jul-1994; PackageVersion: Jan-1998; PackageReference: WD048; Publisher: Altium Limited; PackageDescription: DFP; 48 Leads; Body 16.3 x 9.9 mm (LxW max); Pitch 0.635 mm; Code_JEDEC: MO-146-AA; ComponentLink1Description: Manufacturer Link; ComponentLink1URL: http://www.ti.com/
footprint WD048 (DFP; 48 Leads; Body 16.3 x 9.9 mm (LxW max); Pitch 0.635 mm)
3D model WD048 (DFP; 48 Leads; Body 16.3 x 9.9 mm (LxW max); Pitch 0.635 mm)
signal-integrity model SNJ54ABT16541WD
pins: 1 1~{OE}1 (in), 2 1Y1 (hiz), 3 1Y2 (hiz), 4 GND (power), 5 1Y3 (hiz), 6 1Y4 (hiz), 7 VCC (power), 8 1Y5 (hiz), 9 1Y6 (hiz), 10 GND (power), 11 1Y7 (hiz), 12 1Y8 (hiz), 13 2Y1 (hiz), 14 2Y2 (hiz), 15 GND (power), 16 2Y3 (hiz), 17 2Y4 (hiz), 18 VCC (power), 19 2Y5 (hiz), 20 2Y6 (hiz), 21 GND (power), 22 2Y7 (hiz), 23 2Y8 (hiz), 24 2~{OE}1 (in), 25 2~{OE}2 (in), 26 2A8 (in), 27 2A7 (in), 28 GND (power), 29 2A6 (in), 30 2A5 (in), 31 VCC (power), 32 2A4 (in), 33 2A3 (in), 34 GND (power), 35 2A2 (in), 36 2A1 (in), 37 1A8 (in), 38 1A7 (in), 39 GND (power), 40 1A6 (in), 41 1A5 (in), 42 VCC (power), 43 1A4 (in), 44 1A3 (in), 45 GND (power), 46 1A2 (in), 47 1A1 (in), 48 1~{OE}2 (in)

## SNJ54ABT16825WD
designator U?
18-Bit Buffer/Driver with 3-State Outputs; Published: 8-Jun-2000; LatestRevisionDate: 06-Jun-2005; LatestRevisionNote: Stylized 3D Model Added.; DatasheetVersion: May-1997; PackageVersion: Jan-1998; PackageReference: WD056; Publisher: Altium Limited; PackageDescription: DFP; 56 Leads; Body 18.8 x 9.9 mm (LxW max); Pitch 0.635 mm; Code_JEDEC: MO-146-AB; ComponentLink1Description: Manufacturer Link; ComponentLink1URL: http://www.ti.com/; ComponentLink2Description: Datasheet; ComponentLink2URL: http://www-s.ti.com/sc/ds/sn74abt16825.pdf
footprint WD056 (DFP; 56 Leads; Body 18.8 x 9.9 mm (LxW max); Pitch 0.635 mm)
3D model WD056 (DFP; 56 Leads; Body 18.8 x 9.9 mm (LxW max); Pitch 0.635 mm)
signal-integrity model SNJ54ABT16825WD
pins: 1 1~{OE}1 (in), 2 1Y1 (hiz), 3 1Y2 (hiz), 4 GND (power), 5 1Y3 (hiz), 6 1Y4 (hiz), 7 VCC (power), 8 1Y5 (hiz), 9 1Y6 (hiz), 10 1Y7 (hiz), 11 GND (power), 12 1Y8 (hiz), 13 1Y9 (hiz), 14 GND (power), 15 GND (power), 16 2Y1 (hiz), 17 2Y2 (hiz), 18 GND (power), 19 2Y3 (hiz), 20 2Y4 (hiz), 21 2Y5 (hiz), 22 VCC (power), 23 2Y6 (hiz), 24 2Y7 (hiz), 25 GND (power), 26 2Y8 (hiz), 27 2Y9 (hiz), 28 2~{OE}1 (in), 29 2~{OE}2 (in), 30 2A9 (in), 31 2A8 (in), 32 GND (power), 33 2A7 (in), 34 2A6 (in), 35 VCC (power), 36 2A5 (in), 37 2A4 (in), 38 2A3 (in), 39 GND (power), 40 2A2 (in), 41 2A1 (in), 42 GND (power), 43 GND (power), 44 1A9 (in), 45 1A8 (in), 46 GND (power), 47 1A7 (in), 48 1A6 (in), 49 1A5 (in), 50 VCC (power), 51 1A4 (in), 52 1A3 (in), 53 GND (power), 54 1A2 (in), 55 1A1 (in), 56 1~{OE}2 (in)

## SNJ54ABT16827WD
designator U?
20-Bit Buffer/Driver with 3-State Outputs; Published: 8-Jun-2000; LatestRevisionDate: 06-Jun-2005; LatestRevisionNote: Stylized 3D Model Added.; DatasheetVersion: May-1997; PackageVersion: Jan-1998; PackageReference: WD056; Publisher: Altium Limited; PackageDescription: DFP; 56 Leads; Body 18.8 x 9.9 mm (LxW max); Pitch 0.635 mm; Code_JEDEC: MO-146-AB; ComponentLink1Description: Manufacturer Link; ComponentLink1URL: http://www.ti.com/
footprint WD056 (DFP; 56 Leads; Body 18.8 x 9.9 mm (LxW max); Pitch 0.635 mm)
3D model WD056 (DFP; 56 Leads; Body 18.8 x 9.9 mm (LxW max); Pitch 0.635 mm)
signal-integrity model SNJ54ABT16827WD
pins: 1 1~{OE}1 (in), 2 1Y1 (hiz), 3 1Y2 (hiz), 4 GND (power), 5 1Y3 (hiz), 6 1Y4 (hiz), 7 VCC (power), 8 1Y5 (hiz), 9 1Y6 (hiz), 10 1Y7 (hiz), 11 GND (power), 12 1Y8 (hiz), 13 1Y9 (hiz), 14 1Y10 (hiz), 15 2Y1 (hiz), 16 2Y2 (hiz), 17 2Y3 (hiz), 18 GND (power), 19 2Y4 (hiz), 20 2Y5 (hiz), 21 2Y6 (hiz), 22 VCC (power), 23 2Y7 (hiz), 24 2Y8 (hiz), 25 GND (power), 26 2Y9 (hiz), 27 2Y10 (hiz), 28 2~{OE}1 (in), 29 2~{OE}2 (in), 30 2A10 (in), 31 2A9 (in), 32 GND (power), 33 2A8 (in), 34 2A7 (in), 35 VCC (power), 36 2A6 (in), 37 2A5 (in), 38 2A4 (in), 39 GND (power), 40 2A3 (in), 41 2A2 (in), 42 2A1 (in), 43 1A10 (in), 44 1A9 (in), 45 1A8 (in), 46 GND (power), 47 1A7 (in), 48 1A6 (in), 49 1A5 (in), 50 VCC (power), 51 1A4 (in), 52 1A3 (in), 53 GND (power), 54 1A2 (in), 55 1A1 (in), 56 1~{OE}2 (in)

## SNJ54ABT162244WD
designator U?
16-Bit Buffer/Driver with 3-State Outputs; Published: 8-Jun-2000; LatestRevisionDate: 06-Jun-2005; LatestRevisionNote: Stylized 3D Model Added.; DatasheetVersion: May-1997; PackageVersion: Jan-1998; PackageReference: WD048; Publisher: Altium Limited; PackageDescription: DFP; 48 Leads; Body 16.3 x 9.9 mm (LxW max); Pitch 0.635 mm; Code_JEDEC: MO-146-AA; ComponentLink1Description: Manufacturer Link; ComponentLink1URL: http://www.ti.com/; ComponentLink2Description: Datasheet; ComponentLink2URL: http://www-s.ti.com/sc/ds/sn74abt162244.pdf
footprint WD048 (DFP; 48 Leads; Body 16.3 x 9.9 mm (LxW max); Pitch 0.635 mm)
3D model WD048 (DFP; 48 Leads; Body 16.3 x 9.9 mm (LxW max); Pitch 0.635 mm)
signal-integrity model SNJ54ABT162244WD
pins: 1 ~{OE}1 (in), 2 1Y1 (hiz), 3 1Y2 (hiz), 4 GND (power), 5 1Y3 (hiz), 6 1Y4 (hiz), 7 VCC (power), 8 2Y1 (hiz), 9 2Y2 (hiz), 10 GND (power), 11 2Y3 (hiz), 12 2Y4 (hiz), 13 3Y1 (hiz), 14 3Y2 (hiz), 15 GND (power), 16 3Y3 (hiz), 17 3Y4 (hiz), 18 VCC (power), 19 4Y1 (hiz), 20 4Y2 (hiz), 21 GND (power), 22 4Y3 (hiz), 23 4Y4 (hiz), 24 ~{OE}4 (in), 25 ~{OE}3 (in), 26 4A4 (in), 27 4A3 (in), 28 GND (power), 29 4A2 (in), 30 4A1 (in), 31 VCC (power), 32 3A4 (in), 33 3A3 (in), 34 GND (power), 35 3A2 (in), 36 3A1 (in), 37 2A4 (in), 38 2A3 (in), 39 GND (power), 40 2A2 (in), 41 2A1 (in), 42 VCC (power), 43 1A4 (in), 44 1A3 (in), 45 GND (power), 46 1A2 (in), 47 1A1 (in), 48 ~{OE}2 (in)

## SNJ54ABT162825WD
designator U?
18-Bit Buffer/Driver with 3-State Outputs; Published: 8-Jun-2000; LatestRevisionDate: 06-Jun-2005; LatestRevisionNote: Stylized 3D Model Added.; DatasheetVersion: May-1997; PackageVersion: Jan-1998; PackageReference: WD056; Publisher: Altium Limited; PackageDescription: DFP; 56 Leads; Body 18.8 x 9.9 mm (LxW max); Pitch 0.635 mm; Code_JEDEC: MO-146-AB; ComponentLink1Description: Manufacturer Link; ComponentLink1URL: http://www.ti.com/; ComponentLink2Description: Datasheet; ComponentLink2URL: http://www-s.ti.com/sc/ds/sn74abt162825.pdf
footprint WD056 (DFP; 56 Leads; Body 18.8 x 9.9 mm (LxW max); Pitch 0.635 mm)
3D model WD056 (DFP; 56 Leads; Body 18.8 x 9.9 mm (LxW max); Pitch 0.635 mm)
signal-integrity model SNJ54ABT162825WD
pins: 1 1~{OE}1 (in), 2 1Y1 (hiz), 3 1Y2 (hiz), 4 GND (power), 5 1Y3 (hiz), 6 1Y4 (hiz), 7 VCC (power), 8 1Y5 (hiz), 9 1Y6 (hiz), 10 1Y7 (hiz), 11 GND (power), 12 1Y8 (hiz), 13 1Y9 (hiz), 14 GND (power), 15 GND (power), 16 2Y1 (hiz), 17 2Y2 (hiz), 18 GND (power), 19 2Y3 (hiz), 20 2Y4 (hiz), 21 2Y5 (hiz), 22 VCC (power), 23 2Y6 (hiz), 24 2Y7 (hiz), 25 GND (power), 26 2Y8 (hiz), 27 2Y9 (hiz), 28 2~{OE}1 (in), 29 2~{OE}2 (in), 30 2A9 (in), 31 2A8 (in), 32 GND (power), 33 2A7 (in), 34 2A6 (in), 35 VCC (power), 36 2A5 (in), 37 2A4 (in), 38 2A3 (in), 39 GND (power), 40 2A2 (in), 41 2A1 (in), 42 GND (power), 43 GND (power), 44 1A9 (in), 45 1A8 (in), 46 GND (power), 47 1A7 (in), 48 1A6 (in), 49 1A5 (in), 50 VCC (power), 51 1A4 (in), 52 1A3 (in), 53 GND (power), 54 1A2 (in), 55 1A1 (in), 56 1~{OE}2 (in)

## SNJ54ABT162827AWD
designator U?
20-Bit Buffer/Driver with 3-State Outputs; Published: 8-Jun-2000; LatestRevisionDate: 06-Jun-2005; LatestRevisionNote: Stylized 3D Model Added.; DatasheetVersion: May-1997; PackageVersion: Jan-1998; PackageReference: WD056; Publisher: Altium Limited; PackageDescription: DFP; 56 Leads; Body 18.8 x 9.9 mm (LxW max); Pitch 0.635 mm; Code_JEDEC: MO-146-AB; ComponentLink1Description: Manufacturer Link; ComponentLink1URL: http://www.ti.com/; ComponentLink2Description: Datasheet; ComponentLink2URL: http://www-s.ti.com/sc/ds/sn74abt162827a.pdf
footprint WD056 (DFP; 56 Leads; Body 18.8 x 9.9 mm (LxW max); Pitch 0.635 mm)
3D model WD056 (DFP; 56 Leads; Body 18.8 x 9.9 mm (LxW max); Pitch 0.635 mm)
signal-integrity model SNJ54ABT162827AWD
pins: 1 1~{OE}1 (in), 2 1Y1 (hiz), 3 1Y2 (hiz), 4 GND (power), 5 1Y3 (hiz), 6 1Y4 (hiz), 7 VCC (power), 8 1Y5 (hiz), 9 1Y6 (hiz), 10 1Y7 (hiz), 11 GND (power), 12 1Y8 (hiz), 13 1Y9 (hiz), 14 1Y10 (hiz), 15 2Y1 (hiz), 16 2Y2 (hiz), 17 2Y3 (hiz), 18 GND (power), 19 2Y4 (hiz), 20 2Y5 (hiz), 21 2Y6 (hiz), 22 VCC (power), 23 2Y7 (hiz), 24 2Y8 (hiz), 25 GND (power), 26 2Y9 (hiz), 27 2Y10 (hiz), 28 2~{OE}1 (in), 29 2~{OE}2 (in), 30 2A10 (in), 31 2A9 (in), 32 GND (power), 33 2A8 (in), 34 2A7 (in), 35 VCC (power), 36 2A6 (in), 37 2A5 (in), 38 2A4 (in), 39 GND (power), 40 2A3 (in), 41 2A2 (in), 42 2A1 (in), 43 1A10 (in), 44 1A9 (in), 45 1A8 (in), 46 GND (power), 47 1A7 (in), 48 1A6 (in), 49 1A5 (in), 50 VCC (power), 51 1A4 (in), 52 1A3 (in), 53 GND (power), 54 1A2 (in), 55 1A1 (in), 56 1~{OE}2 (in)

## SNJ54ABT162827WD
designator U?
20-Bit Buffer/Driver with 3-State Outputs; Published: 8-Jun-2000; LatestRevisionDate: 06-Jun-2005; LatestRevisionNote: Stylized 3D Model Added.; DatasheetVersion: Dec-1994; PackageVersion: Jan-1998; PackageReference: WD056; Publisher: Altium Limited; PackageDescription: DFP; 56 Leads; Body 18.8 x 9.9 mm (LxW max); Pitch 0.635 mm; Code_JEDEC: MO-146-AB; ComponentLink1Description: Manufacturer Link; ComponentLink1URL: http://www.ti.com/
footprint WD056 (DFP; 56 Leads; Body 18.8 x 9.9 mm (LxW max); Pitch 0.635 mm)
3D model WD056 (DFP; 56 Leads; Body 18.8 x 9.9 mm (LxW max); Pitch 0.635 mm)
signal-integrity model SNJ54ABT162827WD
pins: 1 1~{OE}1 (in), 2 1Y1 (hiz), 3 1Y2 (hiz), 4 GND (power), 5 1Y3 (hiz), 6 1Y4 (hiz), 7 VCC (power), 8 1Y5 (hiz), 9 1Y6 (hiz), 10 1Y7 (hiz), 11 GND (power), 12 1Y8 (hiz), 13 1Y9 (hiz), 14 1Y10 (hiz), 15 2Y1 (hiz), 16 2Y2 (hiz), 17 2Y3 (hiz), 18 GND (power), 19 2Y4 (hiz), 20 2Y5 (hiz), 21 2Y6 (hiz), 22 VCC (power), 23 2Y7 (hiz), 24 2Y8 (hiz), 25 GND (power), 26 2Y9 (hiz), 27 2Y10 (hiz), 28 2~{OE}1 (in), 29 2~{OE}2 (in), 30 2A10 (in), 31 2A9 (in), 32 GND (power), 33 2A8 (in), 34 2A7 (in), 35 VCC (power), 36 2A6 (in), 37 2A5 (in), 38 2A4 (in), 39 GND (power), 40 2A3 (in), 41 2A2 (in), 42 2A1 (in), 43 1A10 (in), 44 1A9 (in), 45 1A8 (in), 46 GND (power), 47 1A7 (in), 48 1A6 (in), 49 1A5 (in), 50 VCC (power), 51 1A4 (in), 52 1A3 (in), 53 GND (power), 54 1A2 (in), 55 1A1 (in), 56 1~{OE}2 (in)

## SNJ54ABTH16244WD
designator U?
16-Bit Buffer/Driver with 3-State Outputs; Published: 8-Jun-2000; LatestRevisionDate: 06-Jun-2005; LatestRevisionNote: Stylized 3D Model Added.; DatasheetVersion: May-1997; PackageVersion: Jan-1998; PackageReference: WD048; Publisher: Altium Limited; PackageDescription: DFP; 48 Leads; Body 16.3 x 9.9 mm (LxW max); Pitch 0.635 mm; Code_JEDEC: MO-146-AA; ComponentLink1Description: Manufacturer Link; ComponentLink1URL: http://www.ti.com/; ComponentLink2Description: Datasheet; ComponentLink2URL: http://www-s.ti.com/sc/ds/sn74abth16244.pdf
footprint WD048 (DFP; 48 Leads; Body 16.3 x 9.9 mm (LxW max); Pitch 0.635 mm)
3D model WD048 (DFP; 48 Leads; Body 16.3 x 9.9 mm (LxW max); Pitch 0.635 mm)
pins: 1 ~{OE}1 (in), 2 1Y1 (hiz), 3 1Y2 (hiz), 4 GND (power), 5 1Y3 (hiz), 6 1Y4 (hiz), 7 VCC (power), 8 2Y1 (hiz), 9 2Y2 (hiz), 10 GND (power), 11 2Y3 (hiz), 12 2Y4 (hiz), 13 3Y1 (hiz), 14 3Y2 (hiz), 15 GND (power), 16 3Y3 (hiz), 17 3Y4 (hiz), 18 VCC (power), 19 4Y1 (hiz), 20 4Y2 (hiz), 21 GND (power), 22 4Y3 (hiz), 23 4Y4 (hiz), 24 ~{OE}4 (in), 25 ~{OE}3 (in), 26 4A4 (in), 27 4A3 (in), 28 GND (power), 29 4A2 (in), 30 4A1 (in), 31 VCC (power), 32 3A4 (in), 33 3A3 (in), 34 GND (power), 35 3A2 (in), 36 3A1 (in), 37 2A4 (in), 38 2A3 (in), 39 GND (power), 40 2A2 (in), 41 2A1 (in), 42 VCC (power), 43 1A4 (in), 44 1A3 (in), 45 GND (power), 46 1A2 (in), 47 1A1 (in), 48 ~{OE}2 (in)

## SNJ54AC240FK
designator U?
Octal Buffer/Driver with 3-State Outputs; Published: 8-Jun-2000; LatestRevisionDate: 17-Jul-2002; LatestRevisionNote: Re-released for DXP Platform.; DatasheetVersion: Sep-1996; PackageVersion: 1998; PackageReference: FK020; Publisher: Altium Limited; PackageDescription: Leadless Chip Carrier; 20 Terminals; Body 8.9 x 8.9 mm; ComponentLink1Description: Manufacturer Link; ComponentLink1URL: http://www.ti.com/; ComponentLink2Description: Datasheet; ComponentLink2URL: http://www-s.ti.com/sc/ds/sn54ac240.pdf
footprint FK020 (Leadless Chip Carrier; 20 Terminals; Body 8.9 x 8.9 mm)
signal-integrity model SNJ54AC240FK
pins on every part: 10 GND (power) hidden to GND, 20 VCC (power) hidden to VCC
part A pins: 1 ~{OE} (in), 2 A1 (in), 4 A2 (in), 6 A3 (in), 8 A4 (in), 12 Y4 (hiz), 14 Y3 (hiz), 16 Y2 (hiz), 18 Y1 (hiz)
part B pins: 3 Y4 (hiz), 5 Y3 (hiz), 7 Y2 (hiz), 9 Y1 (hiz), 11 A1 (in), 13 A2 (in), 15 A3 (in), 17 A4 (in), 19 ~{OE} (in)

## SNJ54AC240W
designator U?
Octal Buffer/Driver with 3-State Outputs; Published: 8-Jun-2000; LatestRevisionDate: 06-Jun-2005; LatestRevisionNote: Stylized 3D Model Added.; DatasheetVersion: Sep-1996; PackageVersion: Jan-1995; PackageReference: W020; Publisher: Altium Limited; PackageDescription: DFP; 20 Leads; Body 13.7 x 7.6 mm (LxW max); Pitch 1.27 mm; ComponentLink1Description: Manufacturer Link; ComponentLink1URL: http://www.ti.com/; ComponentLink2Description: Datasheet; ComponentLink2URL: http://www-s.ti.com/sc/ds/sn54ac240.pdf
footprint W020 (DFP; 20 Leads; Body 13.7 x 7.6 mm (LxW max); Pitch 1.27 mm)
3D model W020 (DFP; 20 Leads; Body 13.7 x 7.6 mm (LxW max); Pitch 1.27 mm)
signal-integrity model SNJ54AC240W
pins: 1 ~{OE}1 (in), 2 A1 (in), 3 ~{Y}8 (hiz), 4 A2 (in), 5 ~{Y}7 (hiz), 6 A3 (in), 7 ~{Y}6 (hiz), 8 A4 (in), 9 ~{Y}5 (hiz), 10 GND (power), 11 A5 (in), 12 ~{Y}4 (hiz), 13 A6 (in), 14 ~{Y}3 (hiz), 15 A7 (in), 16 ~{Y}2 (hiz), 17 A8 (in), 18 ~{Y}1 (hiz), 19 ~{OE}2 (in), 20 VCC (power)

## SNJ54AC241FK
designator U?
Octal  Buffer/Driver with 3-State Output; Published: 8-Jun-2000; LatestRevisionDate: 17-Jul-2002; LatestRevisionNote: Re-released for DXP Platform.; DatasheetVersion: Sep-1996; PackageVersion: 1998; PackageReference: FK020; Publisher: Altium Limited; PackageDescription: Leadless Chip Carrier; 20 Terminals; Body 8.9 x 8.9 mm; ComponentLink1Description: Manufacturer Link; ComponentLink1URL: http://www.ti.com/; ComponentLink2Description: Datasheet; ComponentLink2URL: http://www-s.ti.com/sc/ds/sn74ac241.pdf
footprint FK020 (Leadless Chip Carrier; 20 Terminals; Body 8.9 x 8.9 mm)
signal-integrity model SNJ54AC241FK
pins on every part: 10 GND (power) hidden to GND, 20 VCC (power) hidden to VCC
part A pins: 1 ~{OE} (in), 2 A1 (in), 4 A2 (in), 6 A3 (in), 8 A4 (in), 12 Y4 (hiz), 14 Y3 (hiz), 16 Y2 (hiz), 18 Y1 (hiz)
part B pins: 3 Y4 (hiz), 5 Y3 (hiz), 7 Y2 (hiz), 9 Y1 (hiz), 11 A1 (in), 13 A2 (in), 15 A3 (in), 17 A4 (in), 19 OE (in)

## SNJ54AC241W
designator U?
Octal  Buffer/Driver with 3-State Output; Published: 8-Jun-2000; LatestRevisionDate: 06-Jun-2005; LatestRevisionNote: Stylized 3D Model Added.; DatasheetVersion: Sep-1996; PackageVersion: Jan-1995; PackageReference: W020; Publisher: Altium Limited; PackageDescription: DFP; 20 Leads; Body 13.7 x 7.6 mm (LxW max); Pitch 1.27 mm; ComponentLink1Description: Manufacturer Link; ComponentLink1URL: http://www.ti.com/; ComponentLink2Description: Datasheet; ComponentLink2URL: http://www-s.ti.com/sc/ds/sn74ac241.pdf
footprint W020 (DFP; 20 Leads; Body 13.7 x 7.6 mm (LxW max); Pitch 1.27 mm)
3D model W020 (DFP; 20 Leads; Body 13.7 x 7.6 mm (LxW max); Pitch 1.27 mm)
signal-integrity model SNJ54AC241W
pins: 1 ~{OE} (in), 2 A1 (in), 3 Y8 (hiz), 4 A2 (in), 5 Y7 (hiz), 6 A3 (in), 7 Y6 (hiz), 8 A4 (in), 9 Y5 (hiz), 10 GND (power), 11 A5 (in), 12 Y4 (hiz), 13 A6 (in), 14 Y3 (hiz), 15 A7 (in), 16 Y2 (hiz), 17 A8 (in), 18 Y1 (hiz), 19 OE (in), 20 VCC (power)

## SNJ54AC11034FK
designator U?
Hex Non-Inverter; Note: Pins No 2 and 19 are not connected; Published: 8-Jun-2000; LatestRevisionDate: 17-Jul-2002; LatestRevisionNote: Re-released for DXP Platform.; DatasheetVersion: Apr-1993; PackageVersion: 1998; PackageReference: FK020; Publisher: Altium Limited; PackageDescription: Leadless Chip Carrier; 20 Terminals; Body 8.9 x 8.9 mm; ComponentLink1Description: Manufacturer Link; ComponentLink1URL: http://www.ti.com/
footprint FK020 (Leadless Chip Carrier; 20 Terminals; Body 8.9 x 8.9 mm)
signal-integrity model SNJ54AC11034FK
pins on every part: 1 VCC (power) hidden to VCC, 9 GND (power) hidden to GND, 10 GND (power) hidden to GND, 11 GND (power) hidden to GND, 12 GND (power) hidden to GND, 20 VCC (power) hidden to VCC
part A pins: 5 A (in), 6 Y (hiz)
part B pins: 4 A (in), 7 Y (hiz)
part C pins: 3 A (in), 8 Y (hiz)
part D pins: 13 Y (hiz), 18 A (in)
part E pins: 14 Y (hiz), 17 A (in)
part F pins: 15 Y (hiz), 16 A (in)

## SNJ54AC11034J
designator U?
Hex Non-Inverter; Published: 8-Jun-2000; LatestRevisionDate: 06-Jun-2005; LatestRevisionNote: Stylized 3D Model Added.; DatasheetVersion: Apr-1993; PackageVersion: Jun-1999; PackageReference: J020C; Publisher: Altium Limited; PackageDescription: DIP; 20 Leads; Row Spacing 7.62 mm; Pitch 2.54 mm; ComponentLink1Description: Manufacturer Link; ComponentLink1URL: http://www.ti.com/
footprint J020C (DIP; 20 Leads; Row Spacing 7.62 mm; Pitch 2.54 mm)
3D model J020 (DIP; 20 Leads; Row Spacing 7.62 mm; Pitch 2.54 mm)
signal-integrity model SNJ54AC11034J
pins on every part: 4 GND (power) hidden to GND, 5 GND (power) hidden to GND, 6 GND (power) hidden to GND, 7 GND (power) hidden to GND, 15 VCC (power) hidden to VCC, 16 VCC (power) hidden to VCC
part A pins: 1 Y (out), 20 A (in)
part B pins: 2 Y (out), 19 A (in)
part C pins: 3 Y (out), 18 A (in)
part D pins: 8 Y (out), 13 A (in)
part E pins: 9 Y (out), 12 A (in)
part F pins: 10 Y (out), 11 A (in)

## SNJ54AC11240FK
designator U?
Octal Buffer/Line Driver with 3-State Outputs; Note: Pins No 1,8,15 and 22 are not connected; Published: 8-Jun-2000; LatestRevisionDate: 17-Jul-2002; LatestRevisionNote: Re-released for DXP Platform.; DatasheetVersion: Apr-1993; PackageVersion: 1998; PackageReference: FK028; Publisher: Altium Limited; PackageDescription: Leadless Chip Carrier; 28 Terminals; Body 11.4 x 11.4 mm; ComponentLink1Description: Manufacturer Link; ComponentLink1URL: http://www.ti.com/
footprint FK028 (Leadless Chip Carrier; 28 Terminals; Body 11.4 x 11.4 mm)
signal-integrity model SNJ54AC11240FK
pins on every part: 2 VCC (power) hidden to VCC, 13 GND (power) hidden to GND, 14 GND (power) hidden to GND, 16 GND (power) hidden to GND, 17 GND (power) hidden to GND, 28 VCC (power) hidden to VCC
part A pins: 3 A4 (in), 4 A3 (in), 5 A2 (in), 6 A1 (in), 7 ~{OE} (in), 9 Y1 (hiz), 10 Y2 (hiz), 11 Y3 (hiz), 12 Y4 (hiz)
part B pins: 18 Y1 (hiz), 19 Y2 (hiz), 20 Y3 (hiz), 21 Y4 (hiz), 23 ~{OE} (in), 24 A4 (in), 25 A3 (in), 26 A2 (in), 27 A1 (in)

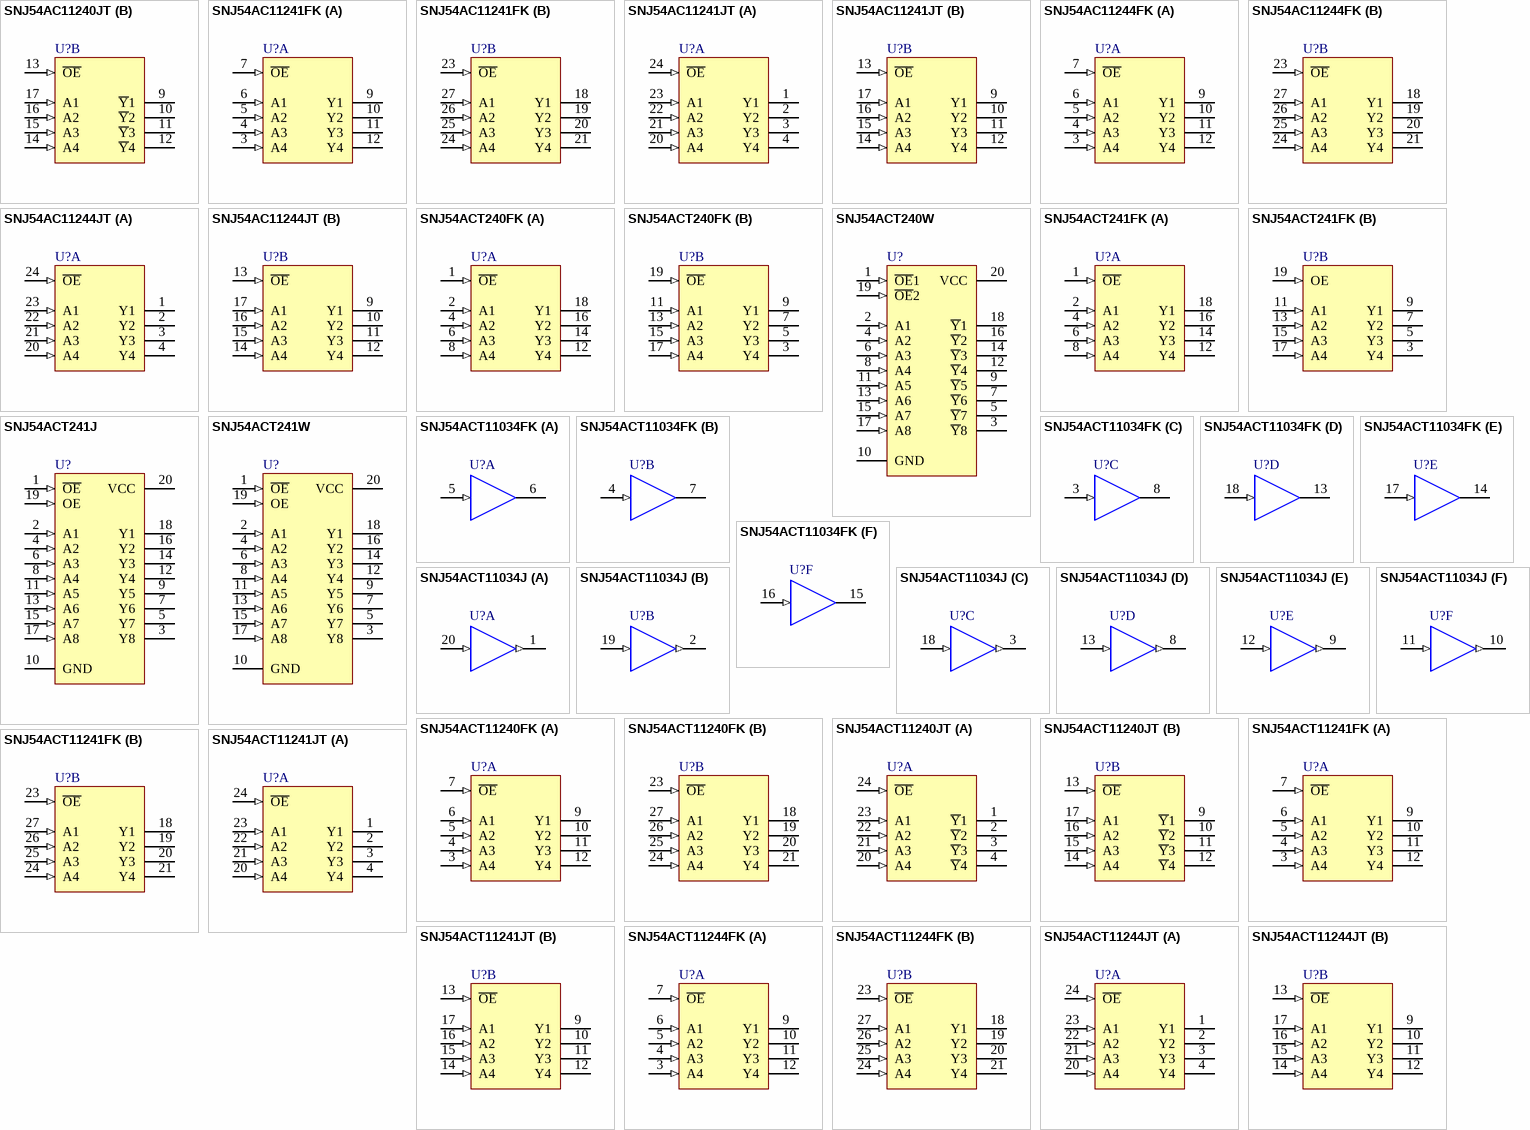
[diagram p40: symbols SNJ54AC11240JT to SNJ54ACT11244JT]

## SNJ54AC11240JT
designator U?
Octal Buffer/Line Driver with 3-State Outputs; Published: 8-Jun-2000; LatestRevisionDate: 06-Jun-2005; LatestRevisionNote: Stylized 3D Model Added.; DatasheetVersion: Apr-1993; PackageVersion: Jan-1997; PackageReference: JT024C; Publisher: Altium Limited; PackageDescription: DIP; 24 Leads; Row Spacing 7.62 mm; Pitch 2.54 mm; Code_JEDEC: MS-001-AF; ComponentLink1Description: Manufacturer Link; ComponentLink1URL: http://www.ti.com/
footprint JT024C (DIP; 24 Leads; Row Spacing 7.62 mm; Pitch 2.54 mm)
3D model JT024 (DIP; 24 Leads; Row Spacing 7.62 mm; Pitch 2.54 mm)
signal-integrity model SNJ54AC11240JT
pins on every part: 5 GND (power) hidden to GND, 6 GND (power) hidden to GND, 7 GND (power) hidden to GND, 8 GND (power) hidden to GND, 18 VCC (power) hidden to VCC, 19 VCC (power) hidden to VCC
part A pins: 1 ~{Y}1 (hiz), 2 ~{Y}2 (hiz), 3 ~{Y}3 (hiz), 4 ~{Y}4 (hiz), 20 A4 (in), 21 A3 (in), 22 A2 (in), 23 A1 (in), 24 ~{OE} (in)
part B pins: 9 ~{Y}1 (hiz), 10 ~{Y}2 (hiz), 11 ~{Y}3 (hiz), 12 ~{Y}4 (hiz), 13 ~{OE} (in), 14 A4 (in), 15 A3 (in), 16 A2 (in), 17 A1 (in)

## SNJ54AC11241FK
designator U?
Octal Buffer/Line Driver with 3-State Outputs; Note: Pins No 1,8,15 and 22 are not connected; Published: 8-Jun-2000; LatestRevisionDate: 17-Jul-2002; LatestRevisionNote: Re-released for DXP Platform.; DatasheetVersion: Apr-1993; PackageVersion: 1998; PackageReference: FK028; Publisher: Altium Limited; PackageDescription: Leadless Chip Carrier; 28 Terminals; Body 11.4 x 11.4 mm; ComponentLink1Description: Manufacturer Link; ComponentLink1URL: http://www.ti.com/
footprint FK028 (Leadless Chip Carrier; 28 Terminals; Body 11.4 x 11.4 mm)
signal-integrity model SNJ54AC11241FK
pins on every part: 2 VCC (power) hidden to VCC, 13 GND (power) hidden to GND, 14 GND (power) hidden to GND, 16 GND (power) hidden to GND, 17 GND (power) hidden to GND, 28 VCC (power) hidden to VCC
part A pins: 3 A4 (in), 4 A3 (in), 5 A2 (in), 6 A1 (in), 7 ~{OE} (in), 9 Y1 (hiz), 10 Y2 (hiz), 11 Y3 (hiz), 12 Y4 (hiz)
part B pins: 18 Y1 (hiz), 19 Y2 (hiz), 20 Y3 (hiz), 21 Y4 (hiz), 23 ~{OE} (in), 24 A4 (in), 25 A3 (in), 26 A2 (in), 27 A1 (in)

## SNJ54AC11241JT
designator U?
Octal Buffer/Line Driver with 3-State Outputs; Published: 8-Jun-2000; LatestRevisionDate: 06-Jun-2005; LatestRevisionNote: Stylized 3D Model Added.; DatasheetVersion: Apr-1993; PackageVersion: Jan-1997; PackageReference: JT024C; Publisher: Altium Limited; PackageDescription: DIP; 24 Leads; Row Spacing 7.62 mm; Pitch 2.54 mm; Code_JEDEC: MS-001-AF; ComponentLink1Description: Manufacturer Link; ComponentLink1URL: http://www.ti.com/
footprint JT024C (DIP; 24 Leads; Row Spacing 7.62 mm; Pitch 2.54 mm)
3D model JT024 (DIP; 24 Leads; Row Spacing 7.62 mm; Pitch 2.54 mm)
signal-integrity model SNJ54AC11241JT
pins on every part: 5 GND (power) hidden to GND, 6 GND (power) hidden to GND, 7 GND (power) hidden to GND, 8 GND (power) hidden to GND, 18 VCC (power) hidden to VCC, 19 VCC (power) hidden to VCC
part A pins: 1 Y1 (hiz), 2 Y2 (hiz), 3 Y3 (hiz), 4 Y4 (hiz), 20 A4 (in), 21 A3 (in), 22 A2 (in), 23 A1 (in), 24 ~{OE} (in)
part B pins: 9 Y1 (hiz), 10 Y2 (hiz), 11 Y3 (hiz), 12 Y4 (hiz), 13 ~{OE} (in), 14 A4 (in), 15 A3 (in), 16 A2 (in), 17 A1 (in)